# Altium schematic symbol library D-Digital.SchLib: 46 symbols
Pins are listed as number, name and electrical type; pins without a type are passive.

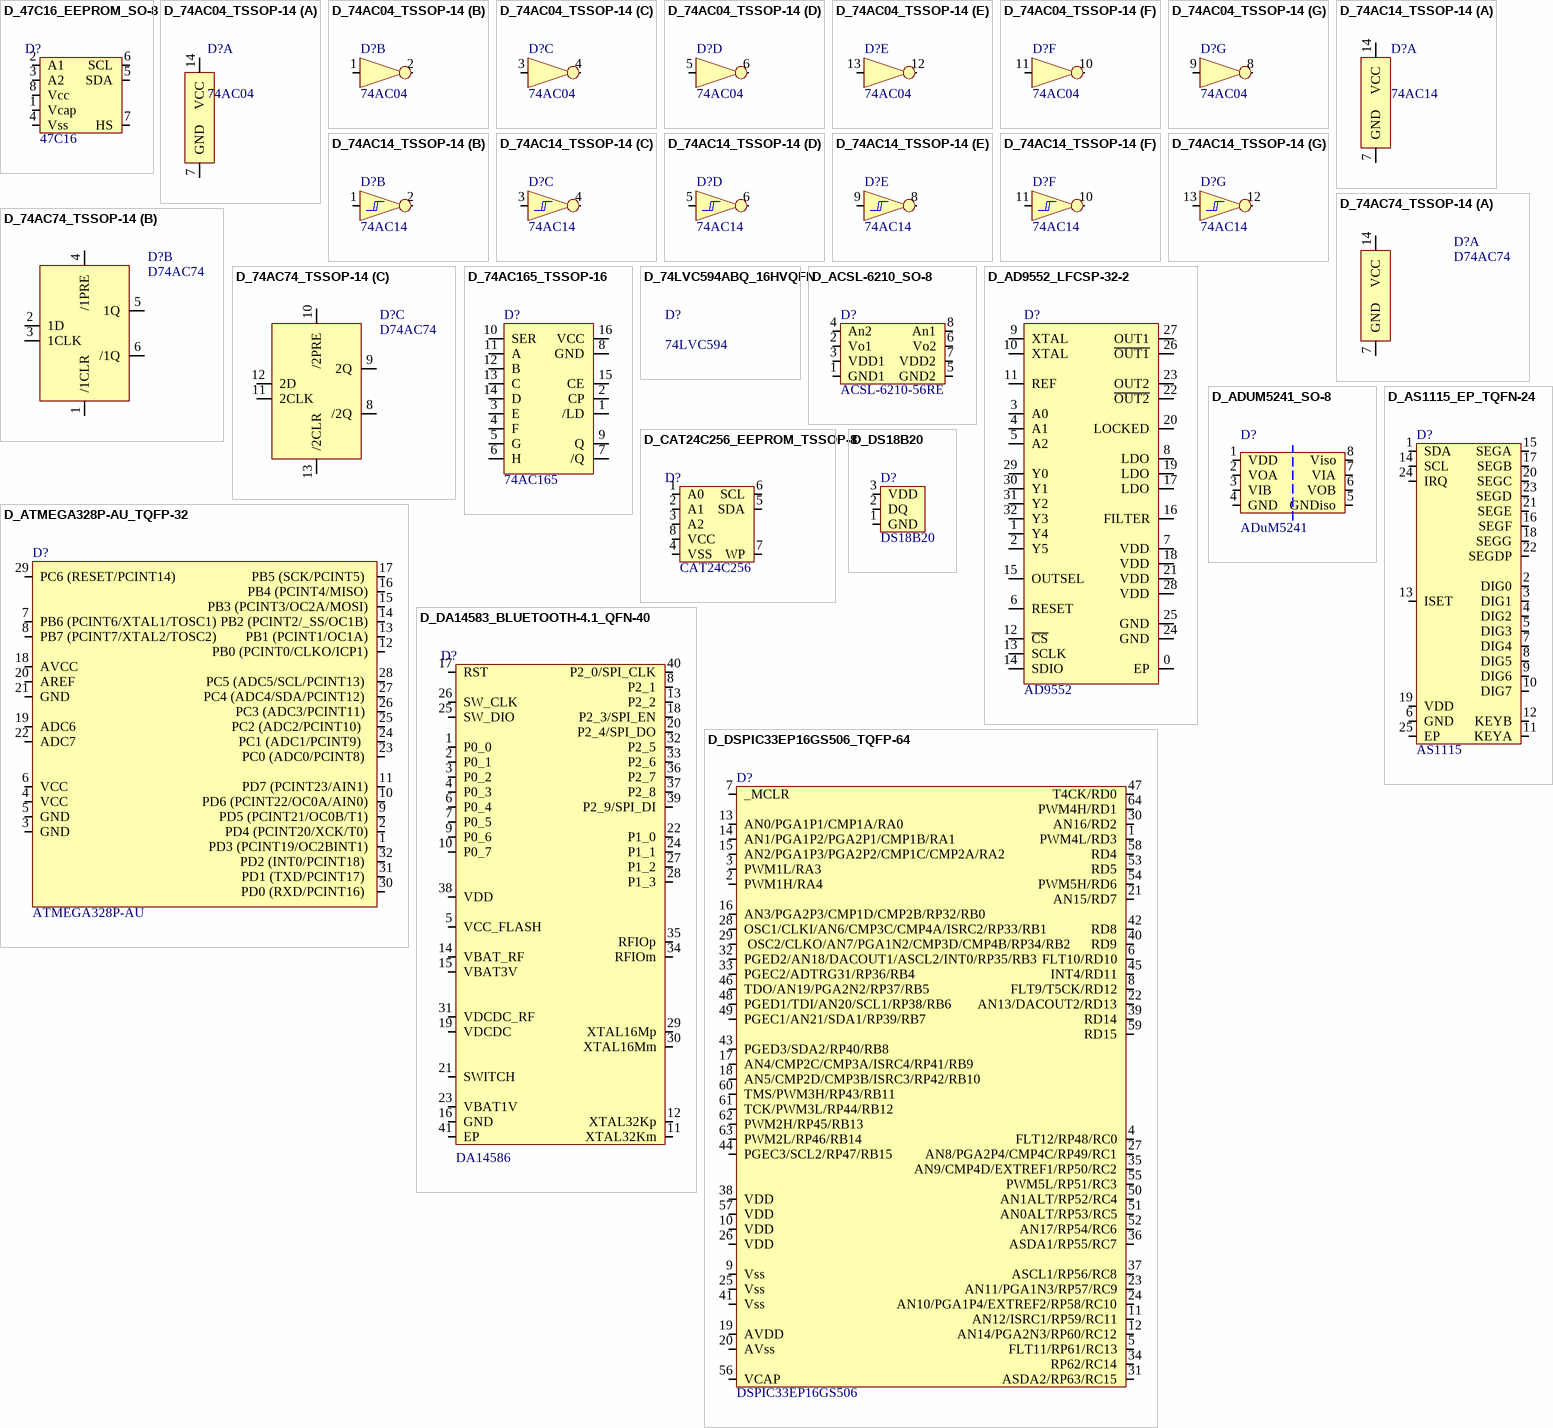
[diagram p0: symbols D_47C16_EEPROM_SO-8 to D_DSPIC33EP16GS506_TQFP-64]

## D_47C16_EEPROM_SO-8
designator D?, comment 47C16
IC EERAM 16K I2C 1MHZ 8SOIC; Supplier - Digikey: 47C16-I/SN-ND; Type: 47C16
footprint SMD_SOP_8
pins: 1 Vcap, 2 A1, 3 A2, 4 Vss, 5 SDA, 6 SCL, 7 HS, 8 Vcc

## D_74AC04_TSSOP-14
designator D?, comment 74AC04
Supplier - Digikey: 296-1054-1-ND; Type: 74AC04
footprint SMD_TSSOP_14
part A pins: 7 GND, 14 VCC
part B pins: 1 1A, 2 1Y
part C pins: 3 2A, 4 2Y
part D pins: 5 3A, 6 3Y
part E pins: 12 4Y, 13 4A
part F pins: 10 5Y, 11 5A
part G pins: 8 6Y, 9 6A

## D_74AC14_TSSOP-14
designator D?, comment 74AC14
HEX SCHMITT-TRIGGER INVERTERS; Supplier - DigiKey: 296-4302-1-ND; Type: 74AC14
footprint SMD_TSSOP_14
part A pins: 7 GND, 14 VCC
part B pins: 1 1A, 2 1Y
part C pins: 3 2A, 4 2Y
part D pins: 5 3A, 6 3Y
part E pins: 8 4Y, 9 4A
part F pins: 10 5Y, 11 5A
part G pins: 12 6Y, 13 6A

## D_74AC74_TSSOP-14
designator D?  Type: D74AC74  (hidden comment: D_74AC74_TSSOP-14)
DUAL POSITIVE-EDGE-TRIGGERED D-TYPE FLIP-FLOPS; Supplier - Digikey: 296-1064-2-ND
footprint SMD_TSSOP_14
part A pins: 7 GND, 14 VCC
part B pins: 1 /1CLR, 2 1D, 3 1CLK, 4 /1PRE, 5 1Q, 6 /1Q
part C pins: 8 /2Q, 9 2Q, 10 /2PRE, 11 2CLK, 12 2D, 13 /2CLR

## D_74AC165_TSSOP-16
designator D?, comment 74AC165
8-BIT PARALLEL-LOAD SHIFT REGISTERS; Supplier - Digikey: 296-8253-1-ND; Type: 74AC165
footprint SMD_TSSOP_16
pins: 1 /LD, 2 CP, 3 E, 4 F, 5 G, 6 H, 7 /Q, 8 GND, 9 Q, 10 SER, 11 A, 12 B, 13 C, 14 D, 15 CE, 16 VCC

## D_74LVC594ABQ_16HVQFN
designator D?  Type: 74LVC594  (hidden comment: D_74LVC594ABQ_16HVQFN)
8-bit shift register with output register; Supplier - Digikey: 1727-2076-1-ND

## D_ACSL-6210_SO-8
designator D?  Type: ACSL-6210-56RE  (hidden comment: D_ACSL-6210_SO-8)
Multi-Channel and Bi-Directional 15MBd Digital Logic Gate Optocoupler; Supplier - Digikey: 516-2916-1-ND
footprint SMD_SOP_8
pins: 1 GND1, 2 Vo1, 3 VDD1, 4 An2, 5 GND2, 6 Vo2, 7 VDD2, 8 An1

## D_AD9552_LFCSP-32-2
designator D?, comment AD9552
Fractional-N PLL clock generator; Supplier - Digikey: AD9552BCPZ-ND; Type: AD9552
footprint SMD_LFCSP-32-2
pins: 0 EP "Exposed Pad (GND)", 1 Y4, 2 Y5, 3 A0, 4 A1, 5 A2, 6 RESET, 7 VDD, 8 LDO, 9 XTAL, 10 XTAL, 11 REF, 12 ~{CS}, 13 SCLK, 14 SDIO, 15 OUTSEL, 16 FILTER, 17 LDO, 18 VDD, 19 LDO, 20 LOCKED, 21 VDD, 22 ~{OUT2}, 23 OUT2, 24 GND, 25 GND, 26 ~{OUT1}, 27 OUT1, 28 VDD, 29 Y0, 30 Y1, 31 Y2, 32 Y3

## D_ADUM5241_SO-8
designator D?  Type: ADuM5241  (hidden comment: D_ADUM5241_SO-8)
Digital isolator with 5V, 50mW isolated supply voltage; Supplier - Digikey: ADUM5241ARZ-RL7CT-ND
footprint SMD_SOP_8
pins: 1 VDD, 2 VOA, 3 VIB, 4 GND, 5 GNDiso, 6 VOB, 7 VIA, 8 Viso

## D_AS1115_EP_TQFN-24
designator D?  Type: AS1115  (hidden comment: D_AS1115_EP_TQFN-24)
64 single LEDs or 8 Digit 7-seg LED driver I2C interface; Supplier - Digikey: AS1115-BQFTCT-ND
footprint SMD_TQFN-24
pins: 1 SDA, 2 DIG0, 3 DIG1, 4 DIG2, 5 DIG3, 6 GND, 7 DIG4, 8 DIG5, 9 DIG6, 10 DIG7, 11 KEYA, 12 KEYB, 13 ISET, 14 SCL, 15 SEGA, 16 SEGF, 17 SEGB, 18 SEGG, 19 VDD, 20 SEGC, 21 SEGE, 22 SEGDP, 23 SEGD, 24 IRQ, 25 EP

## D_ATMEGA328P-AU_TQFP-32
designator D?  Type: ATMEGA328P-AU  (hidden comment: D_ATMEGA328P-AU_TQFP-32)
IC MCU 8BIT 32KB FLASH TQFP-32; Supplier - Digikey: ATMEGA328P-AURCT-ND
footprint SMD_TQFP-32
pins: 1 PD3 (PCINT19/OC2BINT1), 2 PD4 (PCINT20/XCK/T0), 3 GND, 4 VCC, 5 GND, 6 VCC, 7 PB6 (PCINT6/XTAL1/TOSC1), 8 PB7 (PCINT7/XTAL2/TOSC2), 9 PD5 (PCINT21/OC0B/T1), 10 PD6 (PCINT22/OC0A/AIN0), 11 PD7 (PCINT23/AIN1), 12 PB0 (PCINT0/CLKO/ICP1), 13 PB1 (PCINT1/OC1A), 14 PB2 (PCINT2/_SS/OC1B), 15 PB3 (PCINT3/OC2A/MOSI), 16 PB4 (PCINT4/MISO), 17 PB5 (SCK/PCINT5) , 18 AVCC, 19 ADC6, 20 AREF, 21 GND, 22 ADC7, 23 PC0 (ADC0/PCINT8) , 24 PC1 (ADC1/PCINT9)  , 25 PC2 (ADC2/PCINT10)  , 26 PC3 (ADC3/PCINT11) , 27 PC4 (ADC4/SDA/PCINT12) , 28 PC5 (ADC5/SCL/PCINT13) , 29 PC6 (RESET/PCINT14) , 30 PD0 (RXD/PCINT16) , 31 PD1 (TXD/PCINT17) , 32 PD2 (INT0/PCINT18) 

## D_CAT24C256_EEPROM_TSSOP-8
designator D?  Type: CAT24C256  (hidden comment: D_CAT24C256_EEPROM_TSSOP-8)
IC EEPROM 256K I2C 1MHZ 8TSSOP; Supplier - Digikey: CAT24C256YI-GT3OSCT-ND
footprint SMD_TSSOP_8
pins: 1 A0, 2 A1, 3 A2, 4 VSS, 5 SDA, 6 SCL, 7 WP, 8 VCC

## D_DA14583_BLUETOOTH-4.1_QFN-40
designator D?, comment Type: DA14586  (hidden comment: D_DA14586_BLUETOOTH-5.0_QFN-40)
IC RF TxRx + MCU Bluetooth Bluetooth v4.1 2.4GHz 40-VFQFN Exposed Pad; Supplier - Digikey: 1564-1048-1-ND
footprint QFN40P500X500X90_HS-41N (QFN, 40-Leads, Body 5.00x5.00mm, Pitch 0.40mm, Thermal Pad 3.70x3.70mm, IPC Medium Density)
pins: 1 P0_0, 2 P0_1, 3 P0_2, 4 P0_3, 5 VCC_FLASH, 6 P0_4, 7 P0_5, 8 P2_1, 9 P0_6, 10 P0_7, 11 XTAL32Km, 12 XTAL32Kp, 13 P2_2, 14 VBAT_RF, 15 VBAT3V, 16 GND, 17 RST, 18 P2_3/SPI_EN, 19 VDCDC, 20 P2_4/SPI_DO, 21 SWITCH, 22 P1_0, 23 VBAT1V, 24 P1_1, 25 SW_DIO, 26 SW_CLK, 27 P1_2, 28 P1_3, 29 XTAL16Mp, 30 XTAL16Mm, 31 VDCDC_RF, 32 P2_5, 33 P2_6, 34 RFIOm, 35 RFIOp, 36 P2_7, 37 P2_8, 38 VDD, 39 P2_9/SPI_DI, 40 P2_0/SPI_CLK, 41 EP

## D_DS18B20
designator D?, comment Type: DS18B20  (hidden comment: D_DS18B20_TO-92)
Temperature Sensor 12 Bit -55 to 125 Celsius 1-Wire TO-92
footprint THT_TO_92
pins: 1 GND, 2 DQ, 3 VDD

## D_DSPIC33EP16GS506_TQFP-64
designator D?  Type: DSPIC33EP16GS506  (hidden comment: D_DSPIC33EP16GS506_TQFP-64)
Supplier - Digikey: DSPIC33EP16GS506-I/PT-ND
footprint SMD_TQFP-64
pins: 1 PWM4L/RD3, 2 PWM1H/RA4, 3 PWM1L/RA3, 4 FLT12/RP48/RC0, 5 FLT11/RP61/RC13, 6 FLT10/RD10, 7 _MCLR, 8  FLT9/T5CK/RD12, 9 Vss, 10 VDD, 11 AN12/ISRC1/RP59/RC11, 12 AN14/PGA2N3/RP60/RC12, 13 AN0/PGA1P1/CMP1A/RA0, 14 AN1/PGA1P2/PGA2P1/CMP1B/RA1, 15 AN2/PGA1P3/PGA2P2/CMP1C/CMP2A/RA2, 16 AN3/PGA2P3/CMP1D/CMP2B/RP32/RB0, 17 AN4/CMP2C/CMP3A/ISRC4/RP41/RB9, 18 AN5/CMP2D/CMP3B/ISRC3/RP42/RB10, 19 AVDD, 20 AVss, 21 AN15/RD7, 22 AN13/DACOUT2/RD13, 23 AN11/PGA1N3/RP57/RC9, 24 AN10/PGA1P4/EXTREF2/RP58/RC10, 25 Vss, 26 VDD, 27 AN8/PGA2P4/CMP4C/RP49/RC1, 28 OSC1/CLKI/AN6/CMP3C/CMP4A/ISRC2/RP33/RB1, 29  OSC2/CLKO/AN7/PGA1N2/CMP3D/CMP4B/RP34/RB2, 30 AN16/RD2, 31 ASDA2/RP63/RC15, 32 PGED2/AN18/DACOUT1/ASCL2/INT0/RP35/RB3, 33 PGEC2/ADTRG31/RP36/RB4, 34 RP62/RC14, 35 AN9/CMP4D/EXTREF1/RP50/RC2, 36 ASDA1/RP55/RC7, 37 ASCL1/RP56/RC8, 38 VDD, 39 RD14, 40 RD9, 41 Vss, 42 RD8, 43 PGED3/SDA2/RP40/RB8, 44 PGEC3/SCL2/RP47/RB15, 45 INT4/RD11, 46 TDO/AN19/PGA2N2/RP37/RB5, 47 T4CK/RD0, 48 PGED1/TDI/AN20/SCL1/RP38/RB6, 49 PGEC1/AN21/SDA1/RP39/RB7, 50 AN1ALT/RP52/RC4, 51 AN0ALT/RP53/RC5, 52 AN17/RP54/RC6, 53 RD5, 54 PWM5H/RD6, 55 PWM5L/RP51/RC3, 56 VCAP, 57 VDD, 58 RD4, 59 RD15, 60 TMS/PWM3H/RP43/RB11, 61 TCK/PWM3L/RP44/RB12, 62 PWM2H/RP45/RB13, 63 PWM2L/RP46/RB14, 64 PWM4H/RD1

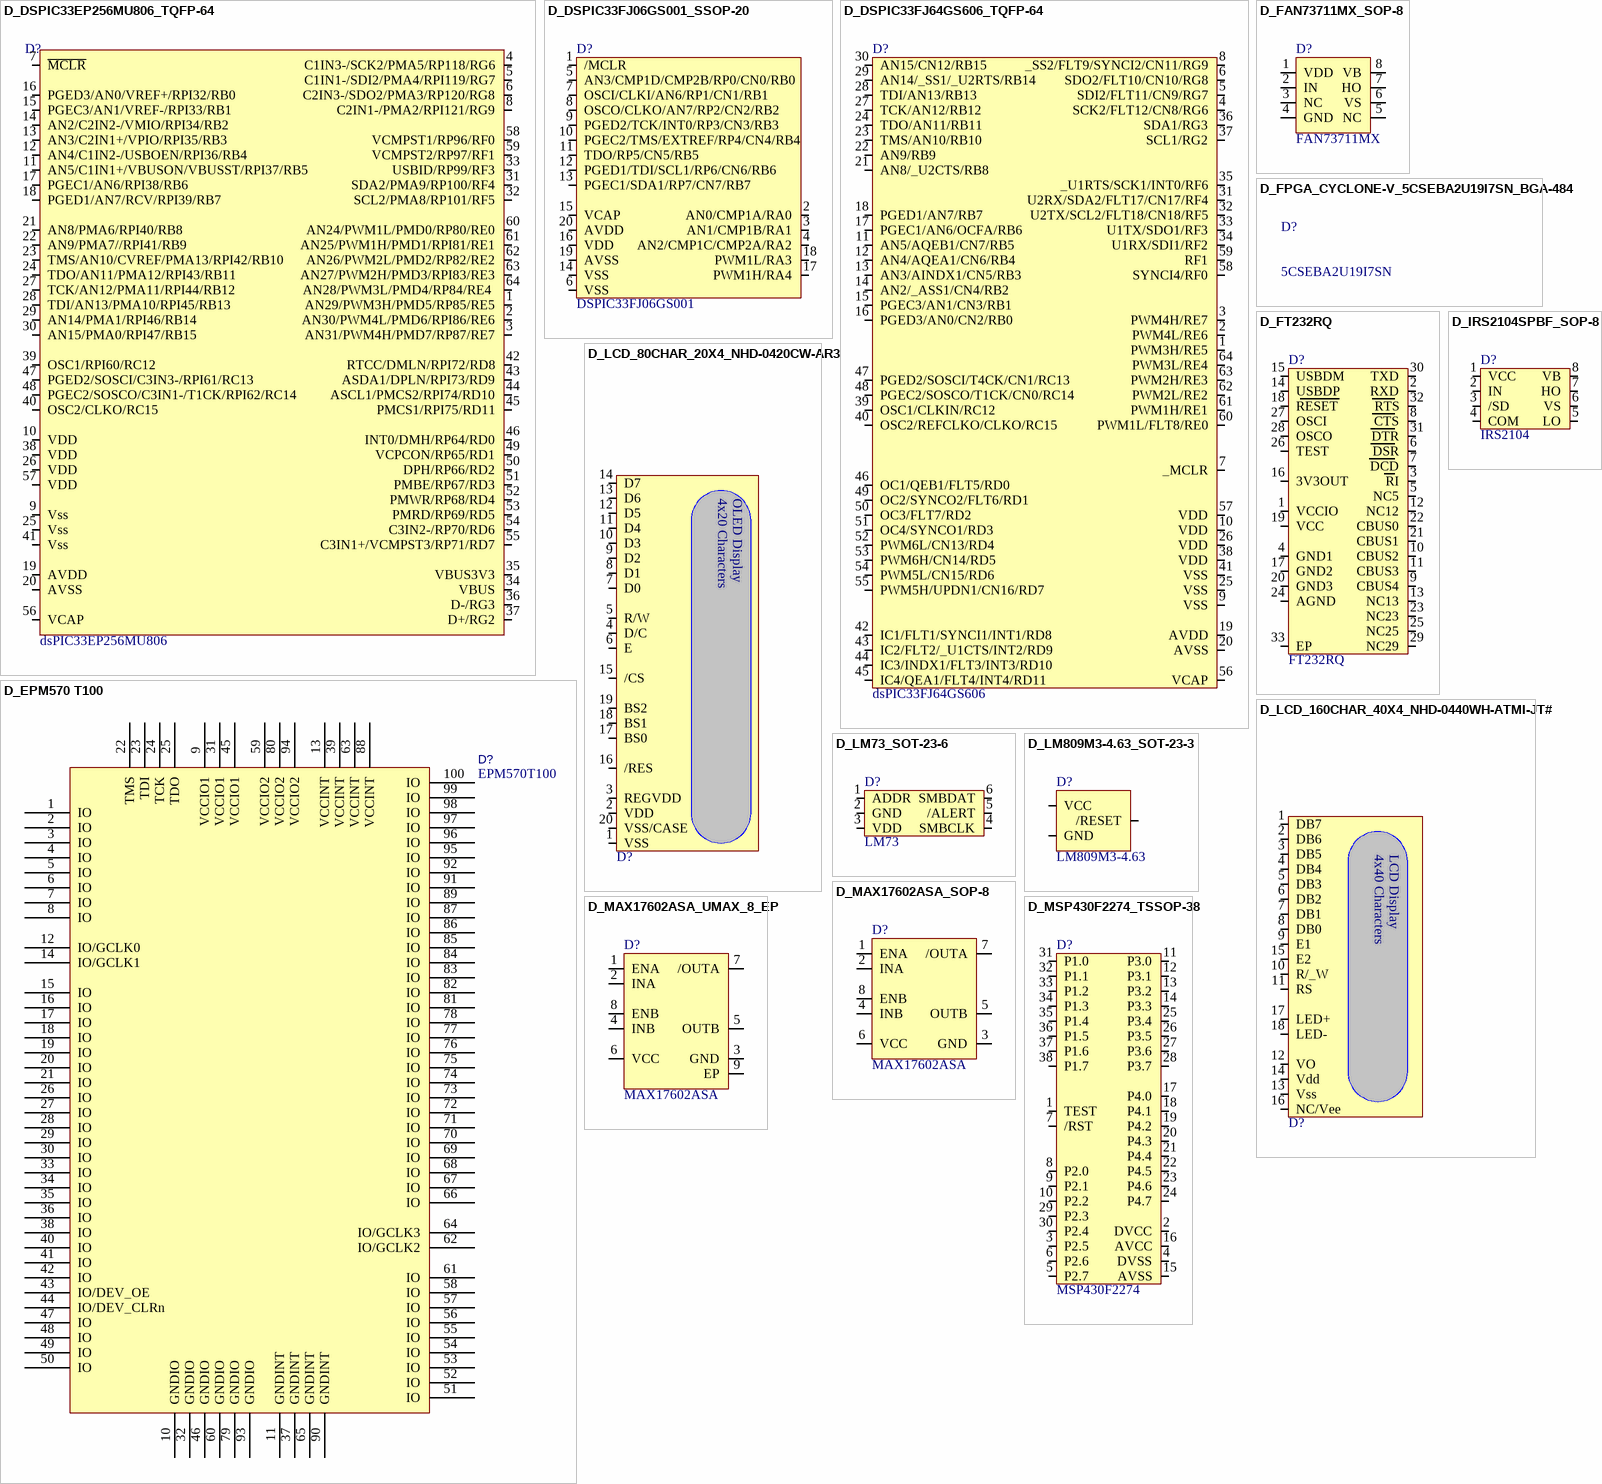
[diagram p1: symbols D_DSPIC33EP256MU806_TQFP-64 to D_MSP430F2274_TSSOP-38]

## D_DSPIC33EP256MU806_TQFP-64
designator D?, comment dsPIC33EP256MU806
D_dsPIC33EP256MU806; Supplier - Digikey: DSPIC33EP256MU806-I/PT-ND; Type: dsPIC33EP256MU806
footprint SMD_TQFP-64
pins: 1 AN29/PWM3H/PMD5/RP85/RE5, 2 AN30/PWM4L/PMD6/RPI86/RE6, 3 AN31/PWM4H/PMD7/RP87/RE7, 4 C1IN3-/SCK2/PMA5/RP118/RG6, 5 C1IN1-/SDI2/PMA4/RPI119/RG7, 6 C2IN3-/SDO2/PMA3/RP120/RG8, 7 ~{MCLR}, 8 C2IN1-/PMA2/RPI121/RG9, 9 Vss, 10 VDD, 11 AN5/C1IN1+/VBUSON/VBUSST/RPI37/RB5, 12 AN4/C1IN2-/USBOEN/RPI36/RB4, 13 AN3/C2IN1+/VPIO/RPI35/RB3, 14 AN2/C2IN2-/VMIO/RPI34/RB2, 15 PGEC3/AN1/VREF-/RPI33/RB1, 16 PGED3/AN0/VREF+/RPI32/RB0, 17 PGEC1/AN6/RPI38/RB6, 18 PGED1/AN7/RCV/RPI39/RB7, 19 AVDD, 20 AVSS, 21 AN8/PMA6/RPI40/RB8, 22 AN9/PMA7//RPI41/RB9, 23 TMS/AN10/CVREF/PMA13/RPI42/RB10, 24 TDO/AN11/PMA12/RPI43/RB11, 25 Vss, 26 VDD, 27 TCK/AN12/PMA11/RPI44/RB12, 28 TDI/AN13/PMA10/RPI45/RB13, 29 AN14/PMA1/RPI46/RB14, 30 AN15/PMA0/RPI47/RB15, 31 SDA2/PMA9/RP100/RF4, 32 SCL2/PMA8/RP101/RF5, 33 USBID/RP99/RF3, 34 VBUS, 35 VBUS3V3, 36 D-/RG3, 37 D+/RG2, 38 VDD, 39 OSC1/RPI60/RC12, 40 OSC2/CLKO/RC15, 41 Vss, 42 RTCC/DMLN/RPI72/RD8, 43 ASDA1/DPLN/RPI73/RD9, 44 ASCL1/PMCS2/RPI74/RD10, 45 PMCS1/RPI75/RD11, 46 INT0/DMH/RP64/RD0, 47 PGED2/SOSCI/C3IN3-/RPI61/RC13, 48 PGEC2/SOSCO/C3IN1-/T1CK/RPI62/RC14, 49 VCPCON/RP65/RD1, 50 DPH/RP66/RD2, 51 PMBE/RP67/RD3, 52 PMWR/RP68/RD4, 53 PMRD/RP69/RD5, 54 C3IN2-/RP70/RD6, 55 C3IN1+/VCMPST3/RP71/RD7, 56 VCAP, 57 VDD, 58 VCMPST1/RP96/RF0, 59 VCMPST2/RP97/RF1, 60 AN24/PWM1L/PMD0/RP80/RE0, 61 AN25/PWM1H/PMD1/RPI81/RE1, 62 AN26/PWM2L/PMD2/RP82/RE2, 63 AN27/PWM2H/PMD3/RPI83/RE3, 64 AN28/PWM3L/PMD4/RP84/RE4 

## D_DSPIC33FJ06GS001_SSOP-20
designator D?  Type: DSPIC33FJ06GS001  (hidden comment: D_DSPIC33FJ06GS001_SSOP-20)
IC DSC 16BIT 6KB FLASH 20SSOP; Supplier - Digikey: DSPIC33FJ06GS001-I/SS-ND
footprint SMD_SSOP_20
pins: 1 /MCLR, 2 AN0/CMP1A/RA0, 3 AN1/CMP1B/RA1, 4 AN2/CMP1C/CMP2A/RA2, 5 AN3/CMP1D/CMP2B/RP0/CN0/RB0, 6 VSS, 7 OSCI/CLKI/AN6/RP1/CN1/RB1, 8 OSCO/CLKO/AN7/RP2/CN2/RB2, 9 PGED2/TCK/INT0/RP3/CN3/RB3, 10 PGEC2/TMS/EXTREF/RP4/CN4/RB4, 11 TDO/RP5/CN5/RB5, 12 PGED1/TDI/SCL1/RP6/CN6/RB6, 13 PGEC1/SDA1/RP7/CN7/RB7, 14 VSS, 15 VCAP, 16 VDD, 17 PWM1H/RA4, 18 PWM1L/RA3, 19 AVSS, 20 AVDD

## D_DSPIC33FJ64GS606_TQFP-64
designator D?  Type: dsPIC33FJ64GS606  (hidden comment: D_DSPIC33FJ64GS606_TQFP-64)
Supplier - Digikey: DSPIC33FJ64GS606-I/PT-ND
footprint SMD_TQFP-64
pins: 1 PWM3H/RE5, 2 PWM4L/RE6, 3 PWM4H/RE7, 4 SCK2/FLT12/CN8/RG6, 5 SDI2/FLT11/CN9/RG7, 6 SDO2/FLT10/CN10/RG8, 7 _MCLR, 8 _SS2/FLT9/SYNCI2/CN11/RG9, 9 VSS, 10 VDD, 11 AN5/AQEB1/CN7/RB5, 12 AN4/AQEA1/CN6/RB4, 13 AN3/AINDX1/CN5/RB3, 14 AN2/_ASS1/CN4/RB2, 15 PGEC3/AN1/CN3/RB1, 16 PGED3/AN0/CN2/RB0, 17 PGEC1/AN6/OCFA/RB6, 18 PGED1/AN7/RB7, 19 AVDD, 20 AVSS, 21 AN8/_U2CTS/RB8, 22 AN9/RB9, 23 TMS/AN10/RB10, 24 TDO/AN11/RB11, 25 VSS, 26 VDD, 27 TCK/AN12/RB12, 28 TDI/AN13/RB13, 29 AN14/_SS1/_U2RTS/RB14, 30 AN15/CN12/RB15, 31 U2RX/SDA2/FLT17/CN17/RF4, 32 U2TX/SCL2/FLT18/CN18/RF5, 33 U1TX/SDO1/RF3, 34 U1RX/SDI1/RF2, 35 _U1RTS/SCK1/INT0/RF6, 36 SDA1/RG3, 37 SCL1/RG2, 38 VDD, 39 OSC1/CLKIN/RC12, 40 OSC2/REFCLKO/CLKO/RC15, 41 VSS, 42 IC1/FLT1/SYNCI1/INT1/RD8, 43 IC2/FLT2/_U1CTS/INT2/RD9, 44 IC3/INDX1/FLT3/INT3/RD10, 45 IC4/QEA1/FLT4/INT4/RD11, 46 OC1/QEB1/FLT5/RD0, 47 PGED2/SOSCI/T4CK/CN1/RC13, 48 PGEC2/SOSCO/T1CK/CN0/RC14, 49 OC2/SYNCO2/FLT6/RD1, 50 OC3/FLT7/RD2, 51 OC4/SYNCO1/RD3, 52 PWM6L/CN13/RD4, 53 PWM6H/CN14/RD5, 54 PWM5L/CN15/RD6, 55 PWM5H/UPDN1/CN16/RD7, 56 VCAP, 57 VDD, 58 SYNCI4/RF0, 59 RF1, 60 PWM1L/FLT8/RE0, 61 PWM1H/RE1, 62 PWM2L/RE2, 63 PWM2H/RE3, 64 PWM3L/RE4

## D_EPM570 T100
designator D?, comment EPM570T100
CPLD; Type: EPM570T100
footprint SMD_F-QFP14X14-G100/N
pins: 1 IO, 2 IO, 3 IO, 4 IO, 5 IO, 6 IO, 7 IO, 8 IO, 9 VCCIO1, 10 GNDIO, 11 GNDINT, 12 IO/GCLK0, 13 VCCINT, 14 IO/GCLK1, 15 IO, 16 IO, 17 IO, 18 IO, 19 IO, 20 IO, 21 IO, 22 TMS, 23 TDI, 24 TCK, 25 TDO, 26 IO, 27 IO, 28 IO, 29 IO, 30 IO, 31 VCCIO1, 32 GNDIO, 33 IO, 34 IO, 35 IO, 36 IO, 37 GNDINT, 38 IO, 39 VCCINT, 40 IO, 41 IO, 42 IO, 43 IO/DEV_OE, 44 IO/DEV_CLRn, 45 VCCIO1, 46 GNDIO, 47 IO, 48 IO, 49 IO, 50 IO, 51 IO, 52 IO, 53 IO, 54 IO, 55 IO, 56 IO, 57 IO, 58 IO, 59 VCCIO2, 60 GNDIO, 61 IO, 62 IO/GCLK2, 63 VCCINT, 64 IO/GCLK3, 65 GNDINT, 66 IO, 67 IO, 68 IO, 69 IO, 70 IO, 71 IO, 72 IO, 73 IO, 74 IO, 75 IO, 76 IO, 77 IO, 78 IO, 79 GNDIO, 80 VCCIO2, 81 IO, 82 IO, 83 IO, 84 IO, 85 IO, 86 IO, 87 IO, 88 VCCINT, 89 IO, 90 GNDINT, 91 IO, 92 IO, 93 GNDIO, 94 VCCIO2, 95 IO, 96 IO, 97 IO, 98 IO, 99 IO, 100 IO

## D_FAN73711MX_SOP-8
designator D?  Type: FAN73711MX  (hidden comment: D_FAN73711MX_SOP-8)
High-Current, High-Side Gate Driver IC; Supplier - Digikey: FAN73711MXCT-ND
footprint SMD_SOP_8
pins: 1 VDD, 2 IN, 3 NC, 4 GND, 5 NC, 6 VS, 7 HO, 8 VB

## D_FPGA_CYCLONE-V_5CSEBA2U19I7SN_BGA-484
designator D?  Type: 5CSEBA2U19I7SN  (hidden comment: D_FPGA_CYCLONE-V_5CSEBA2U19I7SN_BGA-484)
Single ARM® Cortex®-A9 MPCore™ with CoreSight™ System On Chip (SOC) IC Cyclone® V SE FPGA - 25K Logic Elements  64KB 800MHz 484-UBGA (19x19); Supplier - Digikey: 544-3009-ND

## D_FT232RQ
designator D?  Type: FT232RQ  (hidden comment: D_FT232RQ)
FT232r USB UART IC; Supplier - Digikey: 768-1008-1-ND
footprint SMD_QFN-32
pins: 1 VCCIO, 2 RXD, 3 RI, 4 GND1, 5 NC5, 6 DSR, 7 DCD, 8 CTS, 9 CBUS4, 10 CBUS2, 11 CBUS3, 12 NC12, 13 NC13, 14 USBDP, 15 USBDM, 16 3V3OUT, 17 GND2, 18 RESET, 19 VCC, 20 GND3, 21 CBUS1, 22 CBUS0, 23 NC23, 24 AGND, 25 NC25, 26 TEST, 27 OSCI, 28 OSCO, 29 NC29, 30 TXD, 31 DTR, 32 RTS, 33 EP

## D_IRS2104SPBF_SOP-8
designator D?  Type: IRS2104  (hidden comment: D_IRS2104SPBF_SOP-8)
Half-Bridge Driver, 600V; Supplier - Digikey: IRS2104SPBF-ND
footprint SMD_SOP_8
pins: 1 VCC, 2 IN, 3 /SD, 4 COM, 5 LO, 6 VS, 7 HO, 8 VB

## D_LCD_80CHAR_20X4_NHD-0420CW-AR3
designator D?  (value not drawn)
Supplier - Digikey: NHD-0420CW-AR3-ND
footprint THT_CON_P2.54_D0.9_2X10
pins: 1 VSS, 2 VDD, 3 REGVDD, 4 D/C, 5 R/W, 6 E, 7 D0, 8 D1, 9 D2, 10 D3, 11 D4, 12 D5, 13 D6, 14 D7, 15 /CS, 16 /RES, 17 BS0, 18 BS1, 19 BS2, 20 VSS/CASE
text: 4x20 Characters; OLED Display

## D_LCD_160CHAR_40X4_NHD-0440WH-ATMI-JT#
designator D?  (value not drawn)
Supplier - Digikey: NHD-0440WH-ATMI-JT#-ND
footprint THT_CON_P2.54_D0.9_2X9
pins: 1 DB7, 2 DB6, 3 DB5, 4 DB4, 5 DB3, 6 DB2, 7 DB1, 8 DB0, 9 E1, 10 R/_W, 11 RS, 12 VO, 13 Vss, 14 Vdd, 15 E2, 16 NC/Vee, 17 LED+, 18 LED-
text: 4x40 Characters; LCD Display

## D_LM73_SOT-23-6
designator D?  Type: LM73  (hidden comment: D_LM73_SOT-23-6)
Temperature Sensor 11to 14 Bit -40 to 150 Celsius I2C SOT-23-6
footprint SMD_SOT_23_6
pins: 1 ADDR, 2 GND, 3 VDD, 4 SMBCLK, 5 /ALERT, 6 SMBDAT

## D_LM809M3-4.63_SOT-23-3
designator D?  Type: LM809M3-4.63  (hidden comment: D_LM809M3-4.63_SOT-23-3)
MCU RESET CIRCUIT SOT23-3; Supplier - Digikey: LM809M3-4.63/NOPBCT-ND
footprint SMD_SOT_23_3
pins: 1 GND, 2 /RESET, 3 VCC

## D_MAX17602ASA_SOP-8
designator D?  Type: MAX17602ASA  (hidden comment: D_MAX17602ASA_SOP-8)
4A Sink /Source Current, 12ns, Dual MOSFET Drivers; Supplier - Digikey: MAX17602ASA+-ND
footprint SMD_SOP_8
pins: 1 ENA, 2 INA, 3 GND, 4 INB, 5 OUTB, 6 VCC, 7 /OUTA, 8 ENB

## D_MAX17602ASA_UMAX_8_EP
designator D?  Type: MAX17602ASA  (hidden comment: D_MAX17602ASA_UMAX_8_EP)
4A Sink /Source Current, 12ns, Dual MOSFET Drivers; Supplier - Digikey: MAX17602AUA+T-ND
footprint SMD_UMAX_8_EP
pins: 1 ENA, 2 INA, 3 GND, 4 INB, 5 OUTB, 6 VCC, 7 /OUTA, 8 ENB, 9 EP

## D_MSP430F2274_TSSOP-38
designator D?  Type: MSP430F2274  (hidden comment: D_MSP430F2274_TSSOP-38)
Mixed Signal Microcontroller; Supplier - E+H-flowtec SAP: 71137246
footprint SMD_TSSOP_38
pins: 1 TEST, 2 DVCC, 3 P2.5, 4 DVSS, 5 P2.7, 6 P2.6, 7 /RST, 8 P2.0, 9 P2.1, 10 P2.2, 11 P3.0, 12 P3.1, 13 P3.2, 14 P3.3, 15 AVSS, 16 AVCC, 17 P4.0, 18 P4.1, 19 P4.2, 20 P4.3, 21 P4.4, 22 P4.5, 23 P4.6, 24 P4.7, 25 P3.4, 26 P3.5, 27 P3.6, 28 P3.7, 29 P2.3, 30 P2.4, 31 P1.0, 32 P1.1, 33 P1.2, 34 P1.3, 35 P1.4, 36 P1.5, 37 P1.6, 38 P1.7

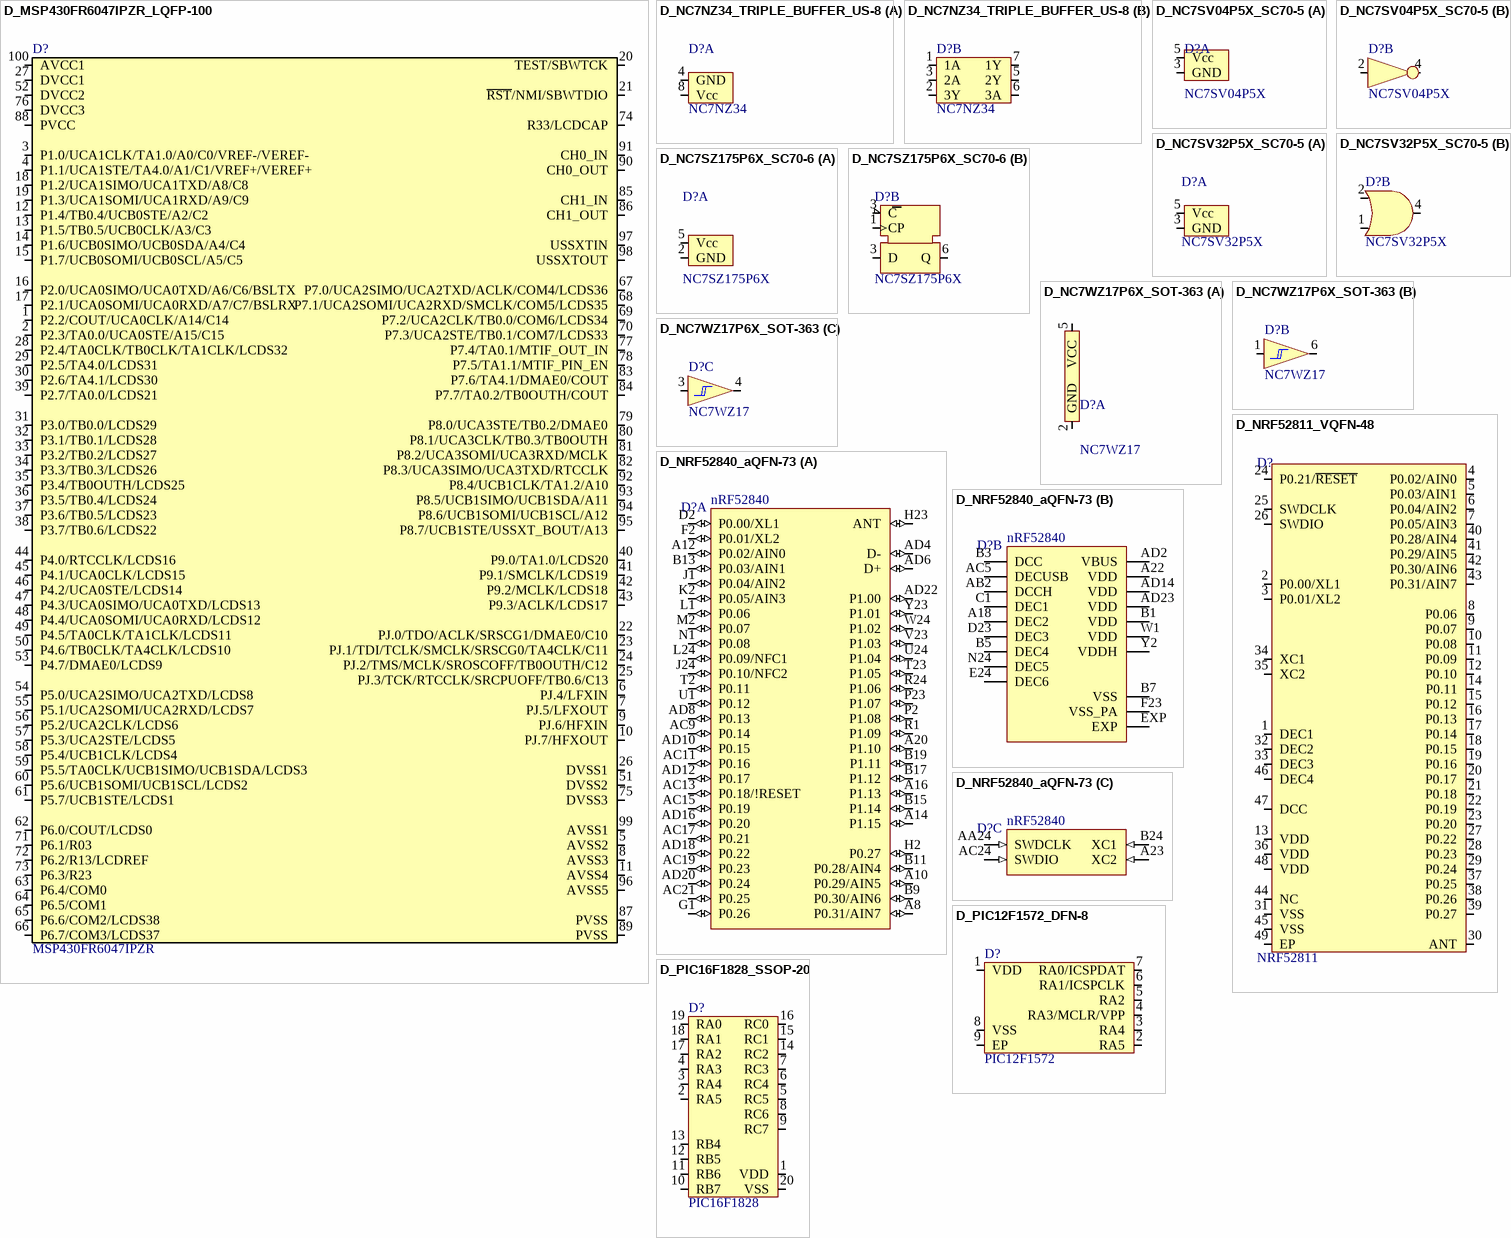
[diagram p2: symbols D_MSP430FR6047IPZR_LQFP-100 to D_PIC16F1828_SSOP-20]

## D_MSP430FR6047IPZR_LQFP-100
designator D?  Type: MSP430FR6047IPZR  (hidden comment: D_MSP430FR6047IPZR_LQFP-100)
Mixed-Signal Microcontroller, PZ0100A (LQFP-100)
footprint SMD_LQFP_100
pins: 1 P2.2/COUT/UCA0CLK/A14/C14 (io), 2 P2.3/TA0.0/UCA0STE/A15/C15 (io), 3 P1.0/UCA1CLK/TA1.0/A0/C0/VREF-/VEREF- (io), 4 P1.1/UCA1STE/TA4.0/A1/C1/VREF+/VEREF+ (io), 5 AVSS2 (power), 6 PJ.4/LFXIN (io), 7 PJ.5/LFXOUT (io), 8 AVSS3 (power), 9 PJ.6/HFXIN (io), 10 PJ.7/HFXOUT (io), 11 AVSS4 (power), 12 P1.4/TB0.4/UCB0STE/A2/C2 (io), 13 P1.5/TB0.5/UCB0CLK/A3/C3 (io), 14 P1.6/UCB0SIMO/UCB0SDA/A4/C4 (io), 15 P1.7/UCB0SOMI/UCB0SCL/A5/C5 (io), 16 P2.0/UCA0SIMO/UCA0TXD/A6/C6/BSLTX (io), 17 P2.1/UCA0SOMI/UCA0RXD/A7/C7/BSLRX (io), 18 P1.2/UCA1SIMO/UCA1TXD/A8/C8 (io), 19 P1.3/UCA1SOMI/UCA1RXD/A9/C9 (io), 20 TEST/SBWTCK (in), 21 ~{RST}/NMI/SBWTDIO (io), 22 PJ.0/TDO/ACLK/SRSCG1/DMAE0/C10 (io), 23 PJ.1/TDI/TCLK/SMCLK/SRSCG0/TA4CLK/C11 (io), 24 PJ.2/TMS/MCLK/SROSCOFF/TB0OUTH/C12 (io), 25 PJ.3/TCK/RTCCLK/SRCPUOFF/TB0.6/C13 (io), 26 DVSS1 (power), 27 DVCC1 (power), 28 P2.4/TA0CLK/TB0CLK/TA1CLK/LCDS32 (io), 29 P2.5/TA4.0/LCDS31 (io), 30 P2.6/TA4.1/LCDS30 (io), 31 P3.0/TB0.0/LCDS29 (io), 32 P3.1/TB0.1/LCDS28 (io), 33 P3.2/TB0.2/LCDS27 (io), 34 P3.3/TB0.3/LCDS26 (io), 35 P3.4/TB0OUTH/LCDS25 (io), 36 P3.5/TB0.4/LCDS24 (io), 37 P3.6/TB0.5/LCDS23 (io), 38 P3.7/TB0.6/LCDS22 (io), 39 P2.7/TA0.0/LCDS21 (io), 40 P9.0/TA1.0/LCDS20 (io), 41 P9.1/SMCLK/LCDS19 (io), 42 P9.2/MCLK/LCDS18 (io), 43 P9.3/ACLK/LCDS17 (io), 44 P4.0/RTCCLK/LCDS16 (io), 45 P4.1/UCA0CLK/LCDS15 (io), 46 P4.2/UCA0STE/LCDS14 (io), 47 P4.3/UCA0SIMO/UCA0TXD/LCDS13 (io), 48 P4.4/UCA0SOMI/UCA0RXD/LCDS12 (io), 49 P4.5/TA0CLK/TA1CLK/LCDS11 (io), 50 P4.6/TB0CLK/TA4CLK/LCDS10 (io), 51 DVSS2 (power), 52 DVCC2 (power), 53 P4.7/DMAE0/LCDS9 (io), 54 P5.0/UCA2SIMO/UCA2TXD/LCDS8 (io), 55 P5.1/UCA2SOMI/UCA2RXD/LCDS7 (io), 56 P5.2/UCA2CLK/LCDS6 (io), 57 P5.3/UCA2STE/LCDS5 (io), 58 P5.4/UCB1CLK/LCDS4 (io), 59 P5.5/TA0CLK/UCB1SIMO/UCB1SDA/LCDS3 (io), 60 P5.6/UCB1SOMI/UCB1SCL/LCDS2 (io), 61 P5.7/UCB1STE/LCDS1 (io), 62 P6.0/COUT/LCDS0 (io), 63 P6.4/COM0 (io), 64 P6.5/COM1 (io), 65 P6.6/COM2/LCDS38 (io), 66 P6.7/COM3/LCDS37 (io), 67 P7.0/UCA2SIMO/UCA2TXD/ACLK/COM4/LCDS36 (io), 68 P7.1/UCA2SOMI/UCA2RXD/SMCLK/COM5/LCDS35 (io), 69 P7.2/UCA2CLK/TB0.0/COM6/LCDS34 (io), 70 P7.3/UCA2STE/TB0.1/COM7/LCDS33 (io), 71 P6.1/R03 (io), 72 P6.2/R13/LCDREF (io), 73 P6.3/R23 (io), 74 R33/LCDCAP (io), 75 DVSS3 (power), 76 DVCC3 (power), 77 P7.4/TA0.1/MTIF_OUT_IN (io), 78 P7.5/TA1.1/MTIF_PIN_EN (io), 79 P8.0/UCA3STE/TB0.2/DMAE0 (io), 80 P8.1/UCA3CLK/TB0.3/TB0OUTH (io), 81 P8.2/UCA3SOMI/UCA3RXD/MCLK (io), 82 P8.3/UCA3SIMO/UCA3TXD/RTCCLK (io), 83 P7.6/TA4.1/DMAE0/COUT (io), 84 P7.7/TA0.2/TB0OUTH/COUT (io), 85 CH1_IN (in), 86 CH1_OUT (out), 87 PVSS (power), 88 PVCC (power), 89 PVSS (power), 90 CH0_OUT (out), 91 CH0_IN (in), 92 P8.4/UCB1CLK/TA1.2/A10 (io), 93 P8.5/UCB1SIMO/UCB1SDA/A11 (io), 94 P8.6/UCB1SOMI/UCB1SCL/A12 (io), 95 P8.7/UCB1STE/USSXT_BOUT/A13 (io), 96 AVSS5 (power), 97 USSXTIN (in), 98 USSXTOUT (out), 99 AVSS1 (power), 100 AVCC1 (power)

## D_NC7NZ34_TRIPLE_BUFFER_US-8
designator D?  Type: NC7NZ34  (hidden comment: D_NC7NZ34_TRIPLE_BUFFER_US-8)
Supplier - E+H Flowtec AG: 71028890
footprint SMD_VSSOP_8
part A pins: 4 GND, 8 Vcc
part B pins: 1 1A, 2 3Y, 3 2A, 5 2Y, 6 3A, 7 1Y

## D_NC7SV04P5X_SC70-5
designator D?  Type: NC7SV04P5X  (hidden comment: D_NC7SV04P5X_SC70-5)
TinyLogic ULP-A Inverter; Supplier - Digikey: NC7SV04P5XCT-ND
footprint SMD_SC70_5
part A pins: 3 GND, 5 Vcc
part B pins: 2 A, 4 Y

## D_NC7SV32P5X_SC70-5
designator D?  Type: NC7SV32P5X  (hidden comment: D_NC7SV32P5X_SC70-5)
TinyLogic ULP-A 2-Input OR Gate; Supplier - Digikey: NC7SV32P5XCT-ND
footprint SMD_SC70_5
part A pins: 3 GND, 5 Vcc
part B pins: 1 A, 2 B, 4 Y

## D_NC7SZ175P6X_SC70-6
designator D?  Type: NC7SZ175P6X  (hidden comment: D_NC7SZ175P6X_SC70-6)
TinyLogic UHS D-Type Flip-Flop with Asynchronous Clear; Supplier - Digikey: NC7SZ175P6XCT-ND
footprint SMD_SC70_6
part A pins: 2 GND, 5 Vcc
part B pins: 1 CP, 3 D, 3 C, 6 Q

## D_NC7WZ17P6X_SOT-363
designator D?  Type: NC7WZ17  (hidden comment: D_NC7WZ17P6X_SOT-363)
Dual Buffer with Schmitt Trigger Inputs; Supplier - Digikey: NC7WZ17P6XCT-ND
footprint SMD_SOT_36_3
part A pins: 2 GND, 5 VCC
part B pins: 1 A1, 6 Y1
part C pins: 3 A2, 4 Y2

## D_NRF52811_VQFN-48
designator D?  Type: NRF52811  (hidden comment: D_NRF52811_VQFN-48)
IC RF TxRx + MCU Bluetooth Bluetooth v5.1 2.4GHz 48-VFQFN Exposed Pad; Supplier - Digikey: 1490-1075-1-ND
footprint SMD_VQFN-48_0.4_EP (QFN, 48-Leads, Body 6.00x6.00mm, Pitch 0.40mm, Thermal Pad 4.60x4.60mm, IPC Medium Density)
pins: 1 DEC1, 2 P0.00/XL1, 3 P0.01/XL2, 4 P0.02/AIN0, 5 P0.03/AIN1, 6 P0.04/AIN2, 7 P0.05/AIN3, 8 P0.06, 9 P0.07, 10 P0.08, 11 P0.09, 12 P0.10, 13 VDD, 14 P0.11, 15 P0.12, 16 P0.13, 17 P0.14, 18 P0.15, 19 P0.16, 20 P0.17, 21 P0.18, 22 P0.19, 23 P0.20, 24 P0.21/~{RESET}, 25 SWDCLK, 26 SWDIO, 27 P0.22, 28 P0.23, 29 P0.24, 30 ANT, 31 VSS, 32 DEC2, 33 DEC3, 34 XC1, 35 XC2, 36 VDD, 37 P0.25, 38 P0.26, 39 P0.27, 40 P0.28/AIN4, 41 P0.29/AIN5, 42 P0.30/AIN6, 43 P0.31/AIN7, 44 NC, 45 VSS, 46 DEC4, 47 DCC, 48 VDD, 49 EP

## D_NRF52840_aQFN-73
designator D?  Type: nRF52840  (hidden comment: *)
IC RF TxRx + MCU 802.15.4, Bluetooth Bluetooth v5.0 2.4GHz 73-VFQFN Dual Rows, Exposed Pad; Supplier - Digikey: 1490-1071-1-ND
footprint SMD_aQFN_73_nRF52840
part A pins: A8 P0.31/AIN7 (io), A10 P0.29/AIN5 (io), A12 P0.02/AIN0 (io), A14 P1.15 (io), A16 P1.13 (io), A20 P1.10 (io), AC9 P0.14 (io), AC11 P0.16 (io), AC13 P0.18/!RESET (io), AC15 P0.19 (io), AC17 P0.21 (io), AC19 P0.23 (io), AC21 P0.25 (io), AD4 D- (io), AD6 D+ (io), AD8 P0.13 (io), AD10 P0.15 (io), AD12 P0.17 (io), AD16 P0.20 (io), AD18 P0.22 (io), AD20 P0.24 (io), AD22 P1.00 (io), B9 P0.30/AIN6 (io), B11 P0.28/AIN4 (io), B13 P0.03/AIN1 (io), B15 P1.14 (io), B17 P1.12 (io), B19 P1.11 (io), D2 P0.00/XL1 (io), F2 P0.01/XL2 (io), G1 P0.26 (io), H2 P0.27 (io), H23 ANT (io), J1 P0.04/AIN2 (io), J24 P0.10/NFC2 (io), K2 P0.05/AIN3 (io), L1 P0.06 (io), L24 P0.09/NFC1 (io), M2 P0.07 (io), N1 P0.08 (io), P2 P1.08 (io), P23 P1.07 (io), R1 P1.09 (io), R24 P1.06 (io), T2 P0.11 (io), T23 P1.05 (io), U1 P0.12 (io), U24 P1.04 (io), V23 P1.03 (io), W24 P1.02 (io), Y23 P1.01 (io)
part B pins: A18 DEC2 (power), A22 VDD (power), AB2 DCCH (power), AC5 DECUSB (power), AD2 VBUS (power), AD14 VDD (power), AD23 VDD (power), B1 VDD (power), B3 DCC (power), B5 DEC4 (power), B7 VSS (power), C1 DEC1 (power), D23 DEC3 (power), E24 DEC6 (power), EXP (power), F23 VSS_PA (power), N24 DEC5 (power), W1 VDD (power), Y2 VDDH (power)
part C pins: A23 XC2 (in), AA24 SWDCLK (in), AC24 SWDIO (in), B24 XC1 (in)

## D_PIC12F1572_DFN-8
designator D?  Type: PIC12F1572  (hidden comment: D_PIC12F1572_DFN-8)
8-Pin MCU with High Precision 16-bit PWMs; Supplier - Digikey: PIC12F1572-I/MF-ND
footprint SMD_DFN_8_3X3
pins: 1 VDD, 2 RA5, 3 RA4, 4 RA3/MCLR/VPP, 5 RA2, 6 RA1/ICSPCLK, 7 RA0/ICSPDAT, 8 VSS, 9 EP

## D_PIC16F1828_SSOP-20
designator D?  (value not drawn)
PIC16F1828; Supplier - Digikey: PIC16F1828-I/SS-ND; Type: PIC16F1828
footprint SMD_SSOP_20
pins: 1 VDD, 2 RA5, 3 RA4, 4 RA3, 5 RC5, 6 RC4, 7 RC3, 8 RC6, 9 RC7, 10 RB7, 11 RB6, 12 RB5, 13 RB4, 14 RC2, 15 RC1, 16 RC0, 17 RA2, 18 RA1, 19 RA0, 20 VSS

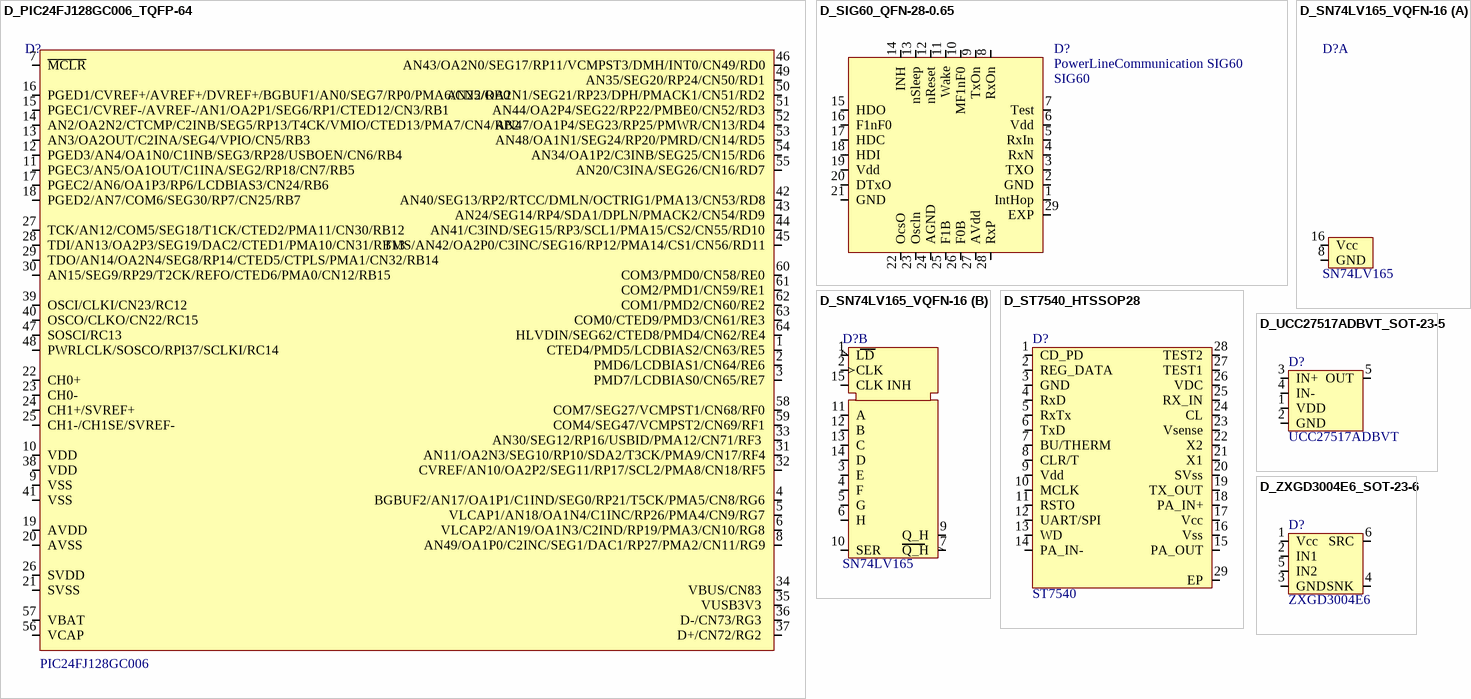
[diagram p3: symbols D_PIC24FJ128GC006_TQFP-64 to D_ZXGD3004E6_SOT-23-6]

## D_PIC24FJ128GC006_TQFP-64
designator D?  Type: PIC24FJ128GC006  (hidden comment: D_PIC24FJ128GC006_TQFP-64)
IC MCU 16BIT 128KB FLASH 64TQFP; Supplier - Digikey: PIC24FJ128GC006-I/PT-ND
footprint SMD_TQFP-64
pins: 1 CTED4/PMD5/LCDBIAS2/CN63/RE5, 2 PMD6/LCDBIAS1/CN64/RE6, 3 PMD7/LCDBIAS0/CN65/RE7, 4 BGBUF2/AN17/OA1P1/C1IND/SEG0/RP21/T5CK/PMA5/CN8/RG6, 5 VLCAP1/AN18/OA1N4/C1INC/RP26/PMA4/CN9/RG7, 6 VLCAP2/AN19/OA1N3/C2IND/RP19/PMA3/CN10/RG8, 7 ~{MCLR}, 8 AN49/OA1P0/C2INC/SEG1/DAC1/RP27/PMA2/CN11/RG9, 9 VSS, 10 VDD, 11 PGEC3/AN5/OA1OUT/C1INA/SEG2/RP18/CN7/RB5, 12 PGED3/AN4/OA1N0/C1INB/SEG3/RP28/USBOEN/CN6/RB4, 13 AN3/OA2OUT/C2INA/SEG4/VPIO/CN5/RB3, 14 AN2/OA2N2/CTCMP/C2INB/SEG5/RP13/T4CK/VMIO/CTED13/PMA7/CN4/RB2, 15 PGEC1/CVREF-/AVREF-/AN1/OA2P1/SEG6/RP1/CTED12/CN3/RB1, 16 PGED1/CVREF+/AVREF+/DVREF+/BGBUF1/AN0/SEG7/RP0/PMA6/CN2/RB0, 17 PGEC2/AN6/OA1P3/RP6/LCDBIAS3/CN24/RB6, 18 PGED2/AN7/COM6/SEG30/RP7/CN25/RB7, 19 AVDD, 20 AVSS, 21 SVSS, 22 CH0+, 23 CH0-, 24 CH1+/SVREF+, 25 CH1-/CH1SE/SVREF-, 26 SVDD, 27 TCK/AN12/COM5/SEG18/T1CK/CTED2/PMA11/CN30/RB12, 28 TDI/AN13/OA2P3/SEG19/DAC2/CTED1/PMA10/CN31/RB13, 29 TDO/AN14/OA2N4/SEG8/RP14/CTED5/CTPLS/PMA1/CN32/RB14, 30 AN15/SEG9/RP29/T2CK/REFO/CTED6/PMA0/CN12/RB15, 31 AN11/OA2N3/SEG10/RP10/SDA2/T3CK/PMA9/CN17/RF4, 32 CVREF/AN10/OA2P2/SEG11/RP17/SCL2/PMA8/CN18/RF5, 33 AN30/SEG12/RP16/USBID/PMA12/CN71/RF3 , 34 VBUS/CN83 , 35 VUSB3V3 , 36 D-/CN73/RG3 , 37 D+/CN72/RG2 , 38 VDD, 39 OSCI/CLKI/CN23/RC12, 40 OSCO/CLKO/CN22/RC15, 41 VSS, 42 AN40/SEG13/RP2/RTCC/DMLN/OCTRIG1/PMA13/CN53/RD8, 43 AN24/SEG14/RP4/SDA1/DPLN/PMACK2/CN54/RD9, 44 AN41/C3IND/SEG15/RP3/SCL1/PMA15/CS2/CN55/RD10, 45 TMS/AN42/OA2P0/C3INC/SEG16/RP12/PMA14/CS1/CN56/RD11, 46 AN43/OA2N0/SEG17/RP11/VCMPST3/DMH/INT0/CN49/RD0, 47 SOSCI/RC13, 48 PWRLCLK/SOSCO/RPI37/SCLKI/RC14, 49 AN35/SEG20/RP24/CN50/RD1, 50 AN25/OA2N1/SEG21/RP23/DPH/PMACK1/CN51/RD2, 51 AN44/OA2P4/SEG22/RP22/PMBE0/CN52/RD3, 52 AN47/OA1P4/SEG23/RP25/PMWR/CN13/RD4, 53 AN48/OA1N1/SEG24/RP20/PMRD/CN14/RD5, 54 AN34/OA1P2/C3INB/SEG25/CN15/RD6, 55 AN20/C3INA/SEG26/CN16/RD7, 56 VCAP, 57 VBAT, 58 COM7/SEG27/VCMPST1/CN68/RF0, 59 COM4/SEG47/VCMPST2/CN69/RF1, 60 COM3/PMD0/CN58/RE0, 61 COM2/PMD1/CN59/RE1, 62 COM1/PMD2/CN60/RE2, 63 COM0/CTED9/PMD3/CN61/RE3, 64 HLVDIN/SEG62/CTED8/PMD4/CN62/RE4

## D_SIG60_QFN-28-0.65
designator D?, comment PowerLineCommunication SIG60  Type: SIG60
footprint SMD_QFN-28-0.65 (QFN, 28-Leads, Body 6.1x6.1mm (max), Pitch 0.65mm, IPC Medium Density)
pins: 1 IntHop, 2 GND, 3 TXO, 4 RxN, 5 RxIn, 6 Vdd, 7 Test, 8 RxOn, 9 TxOn, 10 MF1nF0, 11 Wake, 12 nReset, 13 nSleep, 14 INH, 15 HDO, 16 F1nF0, 17 HDC, 18 HDI, 19 Vdd, 20 DTxO, 21 GND, 22 OcsO, 23 Oscln, 24 AGND, 25 F1B, 26 F0B, 27 AVdd, 28 RxP, 29 EXP

## D_SN74LV165_VQFN-16
designator D?  Type: SN74LV165  (hidden comment: D_SN74LV165_VQFN-16)
Parallel-Load 8-Bit Shift Registers; Supplier - Digikey: 296-13937-1-ND
footprint SMD_VQFN-16
part A pins: 8 GND, 16 Vcc
part B pins: 1 LD, 2 CLK, 3 E, 4 F, 5 G, 6 H, 7 Q_H, 9 Q_H, 10 SER, 11 A, 12 B, 13 C, 14 D, 15 CLK INH

## D_ST7540_HTSSOP28
designator D?, comment Type: ST7540  (hidden comment: PowerLineCommunication ST7540)
Supplier - Digikey: 497-5528-1-ND
footprint SMD_HTSSOP_28
pins: 1 CD_PD, 2 REG_DATA, 3 GND, 4 RxD, 5 RxTx, 6 TxD, 7 BU/THERM, 8 CLR/T, 9 Vdd, 10 MCLK, 11 RSTO, 12 UART/SPI, 13 WD, 14 PA_IN-, 15 PA_OUT, 16 Vss, 17 Vcc, 18 PA_IN+, 19 TX_OUT, 20 SVss, 21 X1, 22 X2, 23 Vsense, 24 CL, 25 RX_IN, 26 VDC, 27 TEST1, 28 TEST2, 29 EP

## D_UCC27517ADBVT_SOT-23-5
designator D?  Type: UCC27517ADBVT  (hidden comment: D_UCC27517ADBVT_SOT-23-5)
IC GATE DVR LOW SIDE 1CH SOT23-5; Supplier - Digikey: 296-36899-1-ND
footprint SMD_SOT_23_5
pins: 1 VDD, 2 GND, 3 IN+, 4 IN-, 5 OUT

## D_ZXGD3004E6_SOT-23-6
designator D?  Type: ZXGD3004E6  (hidden comment: D_ZXGD3004E6_SOT-23-6)
8A(peak) gate driver in SOT23-6; Supplier - Digikey: ZXGD3004E6CT-ND
footprint SMD_SOT_23_6
pins: 1 Vcc, 2 IN1, 3 GND, 4 SNK, 5 IN2, 6 SRC